# Altium schematic symbol library SCH - POWER - SWITCHMODE - TI TPS62826ADMQ.SchLib: 1 symbol
Pins are listed as number, name and electrical type; pins without a type are passive.

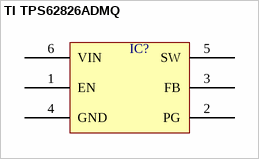
[diagram p0: symbol TI TPS62826ADMQ]

## TI TPS62826ADMQ
designator IC?  (value not drawn)
pins: 1 EN, 2 PG, 3 FB, 4 GND, 5 SW, 6 VIN